# Altium footprint library IPC-SM-782 Section 14.1.3 PBGA 1.0mm.PcbLib: 50 footprints (part 8 of 14)
Each footprint in its own frame and in the unit in brackets; x right, y up, seen from the top. Pads: shape width x height; smd on the part's side, far side on the other; paste and mask are expansions set on the pad; w line width, h text height; cw(c..) or ccw(c..) is an arc to the next point about the centre after c.
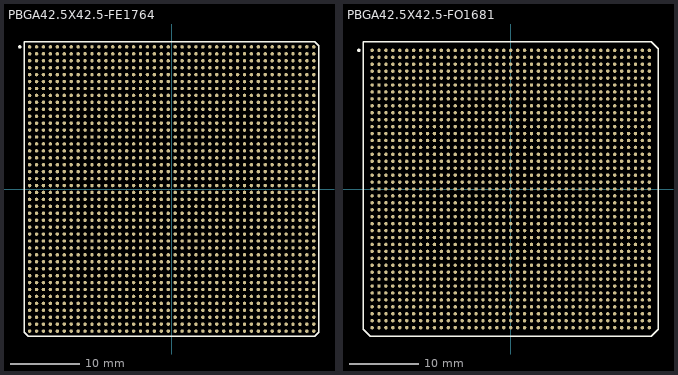
[diagram p7: the footprints below, top view; thin cyan lines are the x and y axes]

## PBGA42.5X42.5-FE1764 [mm] "BGA; 1764 Balls; Body 42.5 x 42.5 mm; Pitch 1 mm"
height 3.5
pads (1764):
  round 0.5 smd: A1(-20.5,20.5) A2(-19.5,20.5) A3(-18.5,20.5) A4(-17.5,20.5) A5(-16.5,20.5) A6(-15.5,20.5) A7(-14.5,20.5) A8(-13.5,20.5) A9(-12.5,20.5) A10(-11.5,20.5) A11(-10.5,20.5) A12(-9.5,20.5) A13(-8.5,20.5) A14(-7.5,20.5) A15(-6.5,20.5) A16(-5.5,20.5) A17(-4.5,20.5) A18(-3.5,20.5) A19(-2.5,20.5) A20(-1.5,20.5) A21(-0.5,20.5) A22(0.5,20.5) A23(1.5,20.5) A24(2.5,20.5) A25(3.5,20.5) A26(4.5,20.5) A27(5.5,20.5) A28(6.5,20.5) A29(7.5,20.5) A30(8.5,20.5) A31(9.5,20.5) A32(10.5,20.5) A33(11.5,20.5) A34(12.5,20.5) A35(13.5,20.5) A36(14.5,20.5) A37(15.5,20.5) A38(16.5,20.5) A39(17.5,20.5) A40(18.5,20.5) A41(19.5,20.5) A42(20.5,20.5) AA1(-20.5,0.5) AA2(-19.5,0.5) AA3(-18.5,0.5) AA4(-17.5,0.5) AA5(-16.5,0.5) AA6(-15.5,0.5) AA7(-14.5,0.5) AA8(-13.5,0.5) AA9(-12.5,0.5) AA10(-11.5,0.5) AA11(-10.5,0.5) AA12(-9.5,0.5) AA13(-8.5,0.5) AA14(-7.5,0.5) AA15(-6.5,0.5) AA16(-5.5,0.5) AA17(-4.5,0.5) AA18(-3.5,0.5) AA19(-2.5,0.5) AA20(-1.5,0.5) AA21(-0.5,0.5) AA22(0.5,0.5) AA23(1.5,0.5) AA24(2.5,0.5) AA25(3.5,0.5) AA26(4.5,0.5) AA27(5.5,0.5) AA28(6.5,0.5) AA29(7.5,0.5) AA30(8.5,0.5) AA31(9.5,0.5) AA32(10.5,0.5) AA33(11.5,0.5) AA34(12.5,0.5) AA35(13.5,0.5) AA36(14.5,0.5) AA37(15.5,0.5) AA38(16.5,0.5) AA39(17.5,0.5) AA40(18.5,0.5) AA41(19.5,0.5) AA42(20.5,0.5) AB1(-20.5,-0.5) AB2(-19.5,-0.5) AB3(-18.5,-0.5) AB4(-17.5,-0.5) AB5(-16.5,-0.5) AB6(-15.5,-0.5) AB7(-14.5,-0.5) AB8(-13.5,-0.5) AB9(-12.5,-0.5) AB10(-11.5,-0.5) AB11(-10.5,-0.5) AB12(-9.5,-0.5) AB13(-8.5,-0.5) AB14(-7.5,-0.5) AB15(-6.5,-0.5) AB16(-5.5,-0.5) AB17(-4.5,-0.5) AB18(-3.5,-0.5) AB19(-2.5,-0.5) AB20(-1.5,-0.5) AB21(-0.5,-0.5) AB22(0.5,-0.5) AB23(1.5,-0.5) AB24(2.5,-0.5) AB25(3.5,-0.5) AB26(4.5,-0.5) AB27(5.5,-0.5) AB28(6.5,-0.5) AB29(7.5,-0.5) AB30(8.5,-0.5) AB31(9.5,-0.5) AB32(10.5,-0.5) AB33(11.5,-0.5) AB34(12.5,-0.5) AB35(13.5,-0.5) AB36(14.5,-0.5) AB37(15.5,-0.5) AB38(16.5,-0.5) AB39(17.5,-0.5) AB40(18.5,-0.5) AB41(19.5,-0.5) AB42(20.5,-0.5) AC1(-20.5,-1.5) AC2(-19.5,-1.5) AC3(-18.5,-1.5) AC4(-17.5,-1.5) AC5(-16.5,-1.5) AC6(-15.5,-1.5) AC7(-14.5,-1.5) AC8(-13.5,-1.5) AC9(-12.5,-1.5) AC10(-11.5,-1.5) AC11(-10.5,-1.5) AC12(-9.5,-1.5) AC13(-8.5,-1.5) AC14(-7.5,-1.5) AC15(-6.5,-1.5) AC16(-5.5,-1.5) AC17(-4.5,-1.5) AC18(-3.5,-1.5) AC19(-2.5,-1.5) AC20(-1.5,-1.5) AC21(-0.5,-1.5) AC22(0.5,-1.5) AC23(1.5,-1.5) AC24(2.5,-1.5) AC25(3.5,-1.5) AC26(4.5,-1.5) AC27(5.5,-1.5) AC28(6.5,-1.5) AC29(7.5,-1.5) AC30(8.5,-1.5) AC31(9.5,-1.5) AC32(10.5,-1.5) AC33(11.5,-1.5) AC34(12.5,-1.5) AC35(13.5,-1.5) AC36(14.5,-1.5) AC37(15.5,-1.5) AC38(16.5,-1.5) AC39(17.5,-1.5) AC40(18.5,-1.5) AC41(19.5,-1.5) AC42(20.5,-1.5) AD1(-20.5,-2.5) AD2(-19.5,-2.5) AD3(-18.5,-2.5) AD4(-17.5,-2.5) AD5(-16.5,-2.5) AD6(-15.5,-2.5) AD7(-14.5,-2.5) AD8(-13.5,-2.5) AD9(-12.5,-2.5) AD10(-11.5,-2.5) AD11(-10.5,-2.5) AD12(-9.5,-2.5) AD13(-8.5,-2.5) AD14(-7.5,-2.5) AD15(-6.5,-2.5) AD16(-5.5,-2.5) AD17(-4.5,-2.5) AD18(-3.5,-2.5) AD19(-2.5,-2.5) AD20(-1.5,-2.5) AD21(-0.5,-2.5) AD22(0.5,-2.5) AD23(1.5,-2.5) AD24(2.5,-2.5) AD25(3.5,-2.5) AD26(4.5,-2.5) AD27(5.5,-2.5) AD28(6.5,-2.5) AD29(7.5,-2.5) AD30(8.5,-2.5) AD31(9.5,-2.5) AD32(10.5,-2.5) AD33(11.5,-2.5) AD34(12.5,-2.5) AD35(13.5,-2.5) AD36(14.5,-2.5) AD37(15.5,-2.5) AD38(16.5,-2.5) AD39(17.5,-2.5) AD40(18.5,-2.5) AD41(19.5,-2.5) AD42(20.5,-2.5) AE1(-20.5,-3.5) AE2(-19.5,-3.5) AE3(-18.5,-3.5) AE4(-17.5,-3.5) AE5(-16.5,-3.5) AE6(-15.5,-3.5) AE7(-14.5,-3.5) AE8(-13.5,-3.5) AE9(-12.5,-3.5) AE10(-11.5,-3.5) AE11(-10.5,-3.5) AE12(-9.5,-3.5) AE13(-8.5,-3.5) AE14(-7.5,-3.5) AE15(-6.5,-3.5) AE16(-5.5,-3.5) AE17(-4.5,-3.5) AE18(-3.5,-3.5) AE19(-2.5,-3.5) AE20(-1.5,-3.5) AE21(-0.5,-3.5) AE22(0.5,-3.5) AE23(1.5,-3.5) AE24(2.5,-3.5) AE25(3.5,-3.5) AE26(4.5,-3.5) AE27(5.5,-3.5) AE28(6.5,-3.5) AE29(7.5,-3.5) AE30(8.5,-3.5) AE31(9.5,-3.5) AE32(10.5,-3.5) AE33(11.5,-3.5) AE34(12.5,-3.5) AE35(13.5,-3.5) AE36(14.5,-3.5) AE37(15.5,-3.5) AE38(16.5,-3.5) AE39(17.5,-3.5) AE40(18.5,-3.5) AE41(19.5,-3.5) AE42(20.5,-3.5) AF1(-20.5,-4.5) AF2(-19.5,-4.5) AF3(-18.5,-4.5) AF4(-17.5,-4.5) AF5(-16.5,-4.5) AF6(-15.5,-4.5) AF7(-14.5,-4.5) AF8(-13.5,-4.5) AF9(-12.5,-4.5) AF10(-11.5,-4.5) AF11(-10.5,-4.5) AF12(-9.5,-4.5) AF13(-8.5,-4.5) AF14(-7.5,-4.5) AF15(-6.5,-4.5) AF16(-5.5,-4.5) AF17(-4.5,-4.5) AF18(-3.5,-4.5) AF19(-2.5,-4.5) AF20(-1.5,-4.5) AF21(-0.5,-4.5) AF22(0.5,-4.5) AF23(1.5,-4.5) AF24(2.5,-4.5) AF25(3.5,-4.5) AF26(4.5,-4.5) AF27(5.5,-4.5) AF28(6.5,-4.5) AF29(7.5,-4.5) AF30(8.5,-4.5) AF31(9.5,-4.5) AF32(10.5,-4.5) AF33(11.5,-4.5) AF34(12.5,-4.5) AF35(13.5,-4.5) AF36(14.5,-4.5) AF37(15.5,-4.5) AF38(16.5,-4.5) AF39(17.5,-4.5) AF40(18.5,-4.5) AF41(19.5,-4.5) AF42(20.5,-4.5) AG1(-20.5,-5.5) AG2(-19.5,-5.5) AG3(-18.5,-5.5) AG4(-17.5,-5.5) AG5(-16.5,-5.5) AG6(-15.5,-5.5) AG7(-14.5,-5.5) AG8(-13.5,-5.5) AG9(-12.5,-5.5) AG10(-11.5,-5.5) AG11(-10.5,-5.5) AG12(-9.5,-5.5) AG13(-8.5,-5.5) AG14(-7.5,-5.5) AG15(-6.5,-5.5) AG16(-5.5,-5.5) AG17(-4.5,-5.5) AG18(-3.5,-5.5) AG19(-2.5,-5.5) AG20(-1.5,-5.5) AG21(-0.5,-5.5) AG22(0.5,-5.5) AG23(1.5,-5.5) AG24(2.5,-5.5) AG25(3.5,-5.5) AG26(4.5,-5.5) AG27(5.5,-5.5) AG28(6.5,-5.5) AG29(7.5,-5.5) AG30(8.5,-5.5) AG31(9.5,-5.5) AG32(10.5,-5.5) AG33(11.5,-5.5) AG34(12.5,-5.5) AG35(13.5,-5.5) AG36(14.5,-5.5) AG37(15.5,-5.5) AG38(16.5,-5.5) AG39(17.5,-5.5) AG40(18.5,-5.5) AG41(19.5,-5.5) AG42(20.5,-5.5) AH1(-20.5,-6.5) AH2(-19.5,-6.5) AH3(-18.5,-6.5) AH4(-17.5,-6.5) AH5(-16.5,-6.5) AH6(-15.5,-6.5) AH7(-14.5,-6.5) AH8(-13.5,-6.5) AH9(-12.5,-6.5) AH10(-11.5,-6.5) AH11(-10.5,-6.5) AH12(-9.5,-6.5) AH13(-8.5,-6.5) AH14(-7.5,-6.5) AH15(-6.5,-6.5) AH16(-5.5,-6.5) AH17(-4.5,-6.5) AH18(-3.5,-6.5) AH19(-2.5,-6.5) AH20(-1.5,-6.5) AH21(-0.5,-6.5) AH22(0.5,-6.5) AH23(1.5,-6.5) AH24(2.5,-6.5) AH25(3.5,-6.5) AH26(4.5,-6.5) AH27(5.5,-6.5) AH28(6.5,-6.5) AH29(7.5,-6.5) AH30(8.5,-6.5) AH31(9.5,-6.5) AH32(10.5,-6.5) AH33(11.5,-6.5) AH34(12.5,-6.5) AH35(13.5,-6.5) AH36(14.5,-6.5) AH37(15.5,-6.5) AH38(16.5,-6.5) AH39(17.5,-6.5) AH40(18.5,-6.5) AH41(19.5,-6.5) AH42(20.5,-6.5) AJ1(-20.5,-7.5) AJ2(-19.5,-7.5) AJ3(-18.5,-7.5) AJ4(-17.5,-7.5) AJ5(-16.5,-7.5) AJ6(-15.5,-7.5) AJ7(-14.5,-7.5) AJ8(-13.5,-7.5) AJ9(-12.5,-7.5) AJ10(-11.5,-7.5) AJ11(-10.5,-7.5) AJ12(-9.5,-7.5) AJ13(-8.5,-7.5) AJ14(-7.5,-7.5) AJ15(-6.5,-7.5) AJ16(-5.5,-7.5) AJ17(-4.5,-7.5) AJ18(-3.5,-7.5) AJ19(-2.5,-7.5) AJ20(-1.5,-7.5) AJ21(-0.5,-7.5) AJ22(0.5,-7.5) AJ23(1.5,-7.5) AJ24(2.5,-7.5) AJ25(3.5,-7.5) AJ26(4.5,-7.5) AJ27(5.5,-7.5) AJ28(6.5,-7.5) AJ29(7.5,-7.5) AJ30(8.5,-7.5) AJ31(9.5,-7.5) AJ32(10.5,-7.5) AJ33(11.5,-7.5) AJ34(12.5,-7.5) AJ35(13.5,-7.5) AJ36(14.5,-7.5) AJ37(15.5,-7.5) AJ38(16.5,-7.5) AJ39(17.5,-7.5) AJ40(18.5,-7.5) AJ41(19.5,-7.5) AJ42(20.5,-7.5) AK1(-20.5,-8.5) AK2(-19.5,-8.5) AK3(-18.5,-8.5) AK4(-17.5,-8.5) AK5(-16.5,-8.5) AK6(-15.5,-8.5) AK7(-14.5,-8.5) AK8(-13.5,-8.5) AK9(-12.5,-8.5) AK10(-11.5,-8.5) AK11(-10.5,-8.5) AK12(-9.5,-8.5) AK13(-8.5,-8.5) AK14(-7.5,-8.5) AK15(-6.5,-8.5) AK16(-5.5,-8.5) AK17(-4.5,-8.5) AK18(-3.5,-8.5) AK19(-2.5,-8.5) AK20(-1.5,-8.5) AK21(-0.5,-8.5) AK22(0.5,-8.5) AK23(1.5,-8.5) AK24(2.5,-8.5) AK25(3.5,-8.5) AK26(4.5,-8.5) AK27(5.5,-8.5) AK28(6.5,-8.5) AK29(7.5,-8.5) AK30(8.5,-8.5) AK31(9.5,-8.5) AK32(10.5,-8.5) AK33(11.5,-8.5) AK34(12.5,-8.5) AK35(13.5,-8.5) AK36(14.5,-8.5) AK37(15.5,-8.5) AK38(16.5,-8.5) AK39(17.5,-8.5) AK40(18.5,-8.5) AK41(19.5,-8.5) AK42(20.5,-8.5) AL1(-20.5,-9.5) AL2(-19.5,-9.5) AL3(-18.5,-9.5) AL4(-17.5,-9.5) AL5(-16.5,-9.5) AL6(-15.5,-9.5) AL7(-14.5,-9.5) AL8(-13.5,-9.5) AL9(-12.5,-9.5) AL10(-11.5,-9.5) AL11(-10.5,-9.5) AL12(-9.5,-9.5) AL13(-8.5,-9.5) AL14(-7.5,-9.5) AL15(-6.5,-9.5) AL16(-5.5,-9.5) AL17(-4.5,-9.5) AL18(-3.5,-9.5) AL19(-2.5,-9.5) AL20(-1.5,-9.5) AL21(-0.5,-9.5) AL22(0.5,-9.5) AL23(1.5,-9.5) AL24(2.5,-9.5) AL25(3.5,-9.5) AL26(4.5,-9.5) AL27(5.5,-9.5) AL28(6.5,-9.5) AL29(7.5,-9.5) AL30(8.5,-9.5) AL31(9.5,-9.5) AL32(10.5,-9.5) AL33(11.5,-9.5) AL34(12.5,-9.5) AL35(13.5,-9.5) AL36(14.5,-9.5) AL37(15.5,-9.5) AL38(16.5,-9.5) AL39(17.5,-9.5) AL40(18.5,-9.5) AL41(19.5,-9.5) AL42(20.5,-9.5) AM1(-20.5,-10.5) AM2(-19.5,-10.5) AM3(-18.5,-10.5) AM4(-17.5,-10.5) AM5(-16.5,-10.5) AM6(-15.5,-10.5) AM7(-14.5,-10.5) AM8(-13.5,-10.5) AM9(-12.5,-10.5) AM10(-11.5,-10.5) AM11(-10.5,-10.5) AM12(-9.5,-10.5) AM13(-8.5,-10.5) AM14(-7.5,-10.5) AM15(-6.5,-10.5) AM16(-5.5,-10.5) AM17(-4.5,-10.5) AM18(-3.5,-10.5) AM19(-2.5,-10.5) AM20(-1.5,-10.5) AM21(-0.5,-10.5) AM22(0.5,-10.5) AM23(1.5,-10.5) AM24(2.5,-10.5) AM25(3.5,-10.5) AM26(4.5,-10.5) AM27(5.5,-10.5) AM28(6.5,-10.5) AM29(7.5,-10.5) AM30(8.5,-10.5) AM31(9.5,-10.5) AM32(10.5,-10.5) AM33(11.5,-10.5) AM34(12.5,-10.5) AM35(13.5,-10.5) AM36(14.5,-10.5) AM37(15.5,-10.5) AM38(16.5,-10.5) AM39(17.5,-10.5) AM40(18.5,-10.5) AM41(19.5,-10.5) AM42(20.5,-10.5) AN1(-20.5,-11.5) AN2(-19.5,-11.5) AN3(-18.5,-11.5) AN4(-17.5,-11.5) AN5(-16.5,-11.5) AN6(-15.5,-11.5) AN7(-14.5,-11.5) AN8(-13.5,-11.5) AN9(-12.5,-11.5) AN10(-11.5,-11.5) AN11(-10.5,-11.5) AN12(-9.5,-11.5) AN13(-8.5,-11.5) AN14(-7.5,-11.5) AN15(-6.5,-11.5) AN16(-5.5,-11.5) AN17(-4.5,-11.5) AN18(-3.5,-11.5) AN19(-2.5,-11.5) AN20(-1.5,-11.5) AN21(-0.5,-11.5) AN22(0.5,-11.5) AN23(1.5,-11.5) AN24(2.5,-11.5) AN25(3.5,-11.5) AN26(4.5,-11.5) AN27(5.5,-11.5) AN28(6.5,-11.5) AN29(7.5,-11.5) AN30(8.5,-11.5) AN31(9.5,-11.5) AN32(10.5,-11.5) AN33(11.5,-11.5) AN34(12.5,-11.5) AN35(13.5,-11.5) AN36(14.5,-11.5) AN37(15.5,-11.5) AN38(16.5,-11.5) AN39(17.5,-11.5) AN40(18.5,-11.5) AN41(19.5,-11.5) AN42(20.5,-11.5) AP1(-20.5,-12.5) AP2(-19.5,-12.5) AP3(-18.5,-12.5) AP4(-17.5,-12.5) AP5(-16.5,-12.5) AP6(-15.5,-12.5) AP7(-14.5,-12.5) AP8(-13.5,-12.5) AP9(-12.5,-12.5) AP10(-11.5,-12.5) AP11(-10.5,-12.5) AP12(-9.5,-12.5) AP13(-8.5,-12.5) AP14(-7.5,-12.5) AP15(-6.5,-12.5) AP16(-5.5,-12.5) AP17(-4.5,-12.5) AP18(-3.5,-12.5) AP19(-2.5,-12.5) AP20(-1.5,-12.5) AP21(-0.5,-12.5) AP22(0.5,-12.5) AP23(1.5,-12.5) AP24(2.5,-12.5) AP25(3.5,-12.5) AP26(4.5,-12.5) AP27(5.5,-12.5) AP28(6.5,-12.5) AP29(7.5,-12.5) AP30(8.5,-12.5) AP31(9.5,-12.5) AP32(10.5,-12.5) AP33(11.5,-12.5) AP34(12.5,-12.5) AP35(13.5,-12.5) AP36(14.5,-12.5) AP37(15.5,-12.5) AP38(16.5,-12.5) AP39(17.5,-12.5) AP40(18.5,-12.5) AP41(19.5,-12.5) AP42(20.5,-12.5) AR1(-20.5,-13.5) AR2(-19.5,-13.5) AR3(-18.5,-13.5) AR4(-17.5,-13.5) AR5(-16.5,-13.5) AR6(-15.5,-13.5) AR7(-14.5,-13.5) AR8(-13.5,-13.5) AR9(-12.5,-13.5) AR10(-11.5,-13.5) AR11(-10.5,-13.5) AR12(-9.5,-13.5) AR13(-8.5,-13.5) AR14(-7.5,-13.5) AR15(-6.5,-13.5) AR16(-5.5,-13.5) AR17(-4.5,-13.5) AR18(-3.5,-13.5) AR19(-2.5,-13.5) AR20(-1.5,-13.5) AR21(-0.5,-13.5) AR22(0.5,-13.5) AR23(1.5,-13.5) AR24(2.5,-13.5) AR25(3.5,-13.5) AR26(4.5,-13.5) AR27(5.5,-13.5) AR28(6.5,-13.5) AR29(7.5,-13.5) AR30(8.5,-13.5) AR31(9.5,-13.5) AR32(10.5,-13.5) AR33(11.5,-13.5) AR34(12.5,-13.5) AR35(13.5,-13.5) AR36(14.5,-13.5) AR37(15.5,-13.5) AR38(16.5,-13.5) AR39(17.5,-13.5) AR40(18.5,-13.5) AR41(19.5,-13.5) AR42(20.5,-13.5) AT1(-20.5,-14.5) AT2(-19.5,-14.5) AT3(-18.5,-14.5) AT4(-17.5,-14.5) AT5(-16.5,-14.5) AT6(-15.5,-14.5) AT7(-14.5,-14.5) AT8(-13.5,-14.5) AT9(-12.5,-14.5) AT10(-11.5,-14.5) AT11(-10.5,-14.5) AT12(-9.5,-14.5) AT13(-8.5,-14.5) AT14(-7.5,-14.5) AT15(-6.5,-14.5) AT16(-5.5,-14.5) AT17(-4.5,-14.5) AT18(-3.5,-14.5) AT19(-2.5,-14.5) AT20(-1.5,-14.5) AT21(-0.5,-14.5) AT22(0.5,-14.5) AT23(1.5,-14.5) AT24(2.5,-14.5) AT25(3.5,-14.5) AT26(4.5,-14.5) AT27(5.5,-14.5) AT28(6.5,-14.5) AT29(7.5,-14.5) AT30(8.5,-14.5) AT31(9.5,-14.5) AT32(10.5,-14.5) AT33(11.5,-14.5) AT34(12.5,-14.5) AT35(13.5,-14.5) AT36(14.5,-14.5) AT37(15.5,-14.5) AT38(16.5,-14.5) AT39(17.5,-14.5) AT40(18.5,-14.5) AT41(19.5,-14.5) AT42(20.5,-14.5) AU1(-20.5,-15.5) AU2(-19.5,-15.5) AU3(-18.5,-15.5) AU4(-17.5,-15.5) AU5(-16.5,-15.5) AU6(-15.5,-15.5) AU7(-14.5,-15.5) AU8(-13.5,-15.5) AU9(-12.5,-15.5) AU10(-11.5,-15.5) AU11(-10.5,-15.5) AU12(-9.5,-15.5) AU13(-8.5,-15.5) AU14(-7.5,-15.5) AU15(-6.5,-15.5) AU16(-5.5,-15.5) AU17(-4.5,-15.5) AU18(-3.5,-15.5) AU19(-2.5,-15.5) AU20(-1.5,-15.5) AU21(-0.5,-15.5) AU22(0.5,-15.5) AU23(1.5,-15.5) AU24(2.5,-15.5) AU25(3.5,-15.5) AU26(4.5,-15.5) AU27(5.5,-15.5) AU28(6.5,-15.5) AU29(7.5,-15.5) AU30(8.5,-15.5) AU31(9.5,-15.5) AU32(10.5,-15.5) AU33(11.5,-15.5) AU34(12.5,-15.5) AU35(13.5,-15.5) AU36(14.5,-15.5) AU37(15.5,-15.5) AU38(16.5,-15.5) AU39(17.5,-15.5) AU40(18.5,-15.5) AU41(19.5,-15.5) AU42(20.5,-15.5) AV1(-20.5,-16.5) AV2(-19.5,-16.5) AV3(-18.5,-16.5) AV4(-17.5,-16.5) AV5(-16.5,-16.5) AV6(-15.5,-16.5) AV7(-14.5,-16.5) AV8(-13.5,-16.5) AV9(-12.5,-16.5) AV10(-11.5,-16.5) AV11(-10.5,-16.5) AV12(-9.5,-16.5) AV13(-8.5,-16.5) AV14(-7.5,-16.5) AV15(-6.5,-16.5) AV16(-5.5,-16.5) AV17(-4.5,-16.5) AV18(-3.5,-16.5) AV19(-2.5,-16.5) AV20(-1.5,-16.5) AV21(-0.5,-16.5) AV22(0.5,-16.5) AV23(1.5,-16.5) AV24(2.5,-16.5) AV25(3.5,-16.5) AV26(4.5,-16.5) AV27(5.5,-16.5) AV28(6.5,-16.5) AV29(7.5,-16.5) AV30(8.5,-16.5) AV31(9.5,-16.5) AV32(10.5,-16.5) AV33(11.5,-16.5) AV34(12.5,-16.5) AV35(13.5,-16.5) AV36(14.5,-16.5) AV37(15.5,-16.5) AV38(16.5,-16.5) AV39(17.5,-16.5) AV40(18.5,-16.5) AV41(19.5,-16.5) AV42(20.5,-16.5) AW1(-20.5,-17.5) AW2(-19.5,-17.5) AW3(-18.5,-17.5) AW4(-17.5,-17.5) AW5(-16.5,-17.5) AW6(-15.5,-17.5) AW7(-14.5,-17.5) AW8(-13.5,-17.5) AW9(-12.5,-17.5) AW10(-11.5,-17.5) AW11(-10.5,-17.5) AW12(-9.5,-17.5) AW13(-8.5,-17.5) AW14(-7.5,-17.5) AW15(-6.5,-17.5) AW16(-5.5,-17.5) AW17(-4.5,-17.5) AW18(-3.5,-17.5) AW19(-2.5,-17.5) AW20(-1.5,-17.5) AW21(-0.5,-17.5) AW22(0.5,-17.5) AW23(1.5,-17.5) AW24(2.5,-17.5) AW25(3.5,-17.5) AW26(4.5,-17.5) AW27(5.5,-17.5) AW28(6.5,-17.5) AW29(7.5,-17.5) AW30(8.5,-17.5) AW31(9.5,-17.5) AW32(10.5,-17.5) AW33(11.5,-17.5) AW34(12.5,-17.5) AW35(13.5,-17.5) AW36(14.5,-17.5) AW37(15.5,-17.5) AW38(16.5,-17.5) AW39(17.5,-17.5) AW40(18.5,-17.5) AW41(19.5,-17.5) AW42(20.5,-17.5) AY1(-20.5,-18.5) AY2(-19.5,-18.5) AY3(-18.5,-18.5) AY4(-17.5,-18.5) AY5(-16.5,-18.5) AY6(-15.5,-18.5) AY7(-14.5,-18.5) AY8(-13.5,-18.5) AY9(-12.5,-18.5) AY10(-11.5,-18.5) AY11(-10.5,-18.5) AY12(-9.5,-18.5) AY13(-8.5,-18.5) AY14(-7.5,-18.5) AY15(-6.5,-18.5) AY16(-5.5,-18.5) AY17(-4.5,-18.5) AY18(-3.5,-18.5) AY19(-2.5,-18.5) AY20(-1.5,-18.5) AY21(-0.5,-18.5) AY22(0.5,-18.5) AY23(1.5,-18.5) AY24(2.5,-18.5) AY25(3.5,-18.5) AY26(4.5,-18.5) AY27(5.5,-18.5) AY28(6.5,-18.5) AY29(7.5,-18.5) AY30(8.5,-18.5) AY31(9.5,-18.5) AY32(10.5,-18.5) AY33(11.5,-18.5) AY34(12.5,-18.5) AY35(13.5,-18.5) AY36(14.5,-18.5) AY37(15.5,-18.5) AY38(16.5,-18.5) AY39(17.5,-18.5) AY40(18.5,-18.5) AY41(19.5,-18.5) AY42(20.5,-18.5) B1(-20.5,19.5) B2(-19.5,19.5) B3(-18.5,19.5) B4(-17.5,19.5) B5(-16.5,19.5) B6(-15.5,19.5) B7(-14.5,19.5) B8(-13.5,19.5) B9(-12.5,19.5) B10(-11.5,19.5) B11(-10.5,19.5) B12(-9.5,19.5) B13(-8.5,19.5) B14(-7.5,19.5) B15(-6.5,19.5) B16(-5.5,19.5) B17(-4.5,19.5) B18(-3.5,19.5) B19(-2.5,19.5) B20(-1.5,19.5) B21(-0.5,19.5) B22(0.5,19.5) B23(1.5,19.5) B24(2.5,19.5) B25(3.5,19.5) B26(4.5,19.5) B27(5.5,19.5) B28(6.5,19.5) B29(7.5,19.5) B30(8.5,19.5) B31(9.5,19.5) B32(10.5,19.5) B33(11.5,19.5) B34(12.5,19.5) B35(13.5,19.5) B36(14.5,19.5) B37(15.5,19.5) B38(16.5,19.5) B39(17.5,19.5) B40(18.5,19.5) B41(19.5,19.5) B42(20.5,19.5) BA1(-20.5,-19.5) BA2(-19.5,-19.5) BA3(-18.5,-19.5) BA4(-17.5,-19.5) BA5(-16.5,-19.5) BA6(-15.5,-19.5) BA7(-14.5,-19.5) BA8(-13.5,-19.5) BA9(-12.5,-19.5) BA10(-11.5,-19.5) BA11(-10.5,-19.5) BA12(-9.5,-19.5) BA13(-8.5,-19.5) BA14(-7.5,-19.5) BA15(-6.5,-19.5) BA16(-5.5,-19.5) BA17(-4.5,-19.5) BA18(-3.5,-19.5) BA19(-2.5,-19.5) BA20(-1.5,-19.5) BA21(-0.5,-19.5) BA22(0.5,-19.5) BA23(1.5,-19.5) BA24(2.5,-19.5) BA25(3.5,-19.5) BA26(4.5,-19.5) BA27(5.5,-19.5) BA28(6.5,-19.5) BA29(7.5,-19.5) BA30(8.5,-19.5) BA31(9.5,-19.5) BA32(10.5,-19.5) BA33(11.5,-19.5) BA34(12.5,-19.5) BA35(13.5,-19.5) BA36(14.5,-19.5) BA37(15.5,-19.5) BA38(16.5,-19.5) BA39(17.5,-19.5) BA40(18.5,-19.5) BA41(19.5,-19.5) BA42(20.5,-19.5) BB1(-20.5,-20.5) BB2(-19.5,-20.5) BB3(-18.5,-20.5) BB4(-17.5,-20.5) BB5(-16.5,-20.5) BB6(-15.5,-20.5) BB7(-14.5,-20.5) BB8(-13.5,-20.5) BB9(-12.5,-20.5) BB10(-11.5,-20.5) BB11(-10.5,-20.5) BB12(-9.5,-20.5) BB13(-8.5,-20.5) BB14(-7.5,-20.5) BB15(-6.5,-20.5) BB16(-5.5,-20.5) BB17(-4.5,-20.5) BB18(-3.5,-20.5) BB19(-2.5,-20.5) BB20(-1.5,-20.5) BB21(-0.5,-20.5) BB22(0.5,-20.5) BB23(1.5,-20.5) BB24(2.5,-20.5) BB25(3.5,-20.5) BB26(4.5,-20.5) BB27(5.5,-20.5) BB28(6.5,-20.5) BB29(7.5,-20.5) BB30(8.5,-20.5) BB31(9.5,-20.5) BB32(10.5,-20.5) BB33(11.5,-20.5) BB34(12.5,-20.5) BB35(13.5,-20.5) BB36(14.5,-20.5) BB37(15.5,-20.5) BB38(16.5,-20.5) BB39(17.5,-20.5) BB40(18.5,-20.5) BB41(19.5,-20.5) BB42(20.5,-20.5) C1(-20.5,18.5) C2(-19.5,18.5) C3(-18.5,18.5) C4(-17.5,18.5) C5(-16.5,18.5) C6(-15.5,18.5) C7(-14.5,18.5) C8(-13.5,18.5) C9(-12.5,18.5) C10(-11.5,18.5) C11(-10.5,18.5) C12(-9.5,18.5) C13(-8.5,18.5) C14(-7.5,18.5) C15(-6.5,18.5) C16(-5.5,18.5) C17(-4.5,18.5) C18(-3.5,18.5) C19(-2.5,18.5) C20(-1.5,18.5) C21(-0.5,18.5) C22(0.5,18.5) C23(1.5,18.5) C24(2.5,18.5) C25(3.5,18.5) C26(4.5,18.5) C27(5.5,18.5) C28(6.5,18.5) C29(7.5,18.5) C30(8.5,18.5) C31(9.5,18.5) C32(10.5,18.5) C33(11.5,18.5) C34(12.5,18.5) C35(13.5,18.5) C36(14.5,18.5) C37(15.5,18.5) C38(16.5,18.5) C39(17.5,18.5) C40(18.5,18.5) C41(19.5,18.5) C42(20.5,18.5) D1(-20.5,17.5) D2(-19.5,17.5) D3(-18.5,17.5) D4(-17.5,17.5) D5(-16.5,17.5) D6(-15.5,17.5) D7(-14.5,17.5) D8(-13.5,17.5) D9(-12.5,17.5) D10(-11.5,17.5) D11(-10.5,17.5) D12(-9.5,17.5) D13(-8.5,17.5) D14(-7.5,17.5) D15(-6.5,17.5) D16(-5.5,17.5) D17(-4.5,17.5) D18(-3.5,17.5) D19(-2.5,17.5) D20(-1.5,17.5) D21(-0.5,17.5) D22(0.5,17.5) D23(1.5,17.5) D24(2.5,17.5) D25(3.5,17.5) D26(4.5,17.5) D27(5.5,17.5) D28(6.5,17.5) D29(7.5,17.5) D30(8.5,17.5) D31(9.5,17.5) D32(10.5,17.5) D33(11.5,17.5) D34(12.5,17.5) D35(13.5,17.5) D36(14.5,17.5) D37(15.5,17.5) D38(16.5,17.5) D39(17.5,17.5) D40(18.5,17.5) D41(19.5,17.5) D42(20.5,17.5) E1(-20.5,16.5) E2(-19.5,16.5) E3(-18.5,16.5) E4(-17.5,16.5) E5(-16.5,16.5) E6(-15.5,16.5) E7(-14.5,16.5) E8(-13.5,16.5) E9(-12.5,16.5) E10(-11.5,16.5) E11(-10.5,16.5) E12(-9.5,16.5) E13(-8.5,16.5) E14(-7.5,16.5) E15(-6.5,16.5) E16(-5.5,16.5) E17(-4.5,16.5) E18(-3.5,16.5) E19(-2.5,16.5) E20(-1.5,16.5) E21(-0.5,16.5) E22(0.5,16.5) E23(1.5,16.5) E24(2.5,16.5) E25(3.5,16.5) E26(4.5,16.5) E27(5.5,16.5) E28(6.5,16.5) E29(7.5,16.5) E30(8.5,16.5) E31(9.5,16.5) E32(10.5,16.5) E33(11.5,16.5) E34(12.5,16.5) E35(13.5,16.5) E36(14.5,16.5) E37(15.5,16.5) E38(16.5,16.5) E39(17.5,16.5) E40(18.5,16.5) E41(19.5,16.5) E42(20.5,16.5) F1(-20.5,15.5) F2(-19.5,15.5) F3(-18.5,15.5) F4(-17.5,15.5) F5(-16.5,15.5) F6(-15.5,15.5) F7(-14.5,15.5) F8(-13.5,15.5) F9(-12.5,15.5) F10(-11.5,15.5) F11(-10.5,15.5) F12(-9.5,15.5) F13(-8.5,15.5) F14(-7.5,15.5) F15(-6.5,15.5) F16(-5.5,15.5) F17(-4.5,15.5) F18(-3.5,15.5) F19(-2.5,15.5) F20(-1.5,15.5) F21(-0.5,15.5) F22(0.5,15.5) F23(1.5,15.5) F24(2.5,15.5) F25(3.5,15.5) F26(4.5,15.5) F27(5.5,15.5) F28(6.5,15.5) F29(7.5,15.5) F30(8.5,15.5) F31(9.5,15.5) F32(10.5,15.5) F33(11.5,15.5) F34(12.5,15.5) F35(13.5,15.5) F36(14.5,15.5) F37(15.5,15.5) F38(16.5,15.5) F39(17.5,15.5) F40(18.5,15.5) F41(19.5,15.5) F42(20.5,15.5) G1(-20.5,14.5) G2(-19.5,14.5) G3(-18.5,14.5) G4(-17.5,14.5) G5(-16.5,14.5) G6(-15.5,14.5) G7(-14.5,14.5) G8(-13.5,14.5) G9(-12.5,14.5) G10(-11.5,14.5) G11(-10.5,14.5) G12(-9.5,14.5) G13(-8.5,14.5) G14(-7.5,14.5) G15(-6.5,14.5) G16(-5.5,14.5) G17(-4.5,14.5) G18(-3.5,14.5) G19(-2.5,14.5) G20(-1.5,14.5) G21(-0.5,14.5) G22(0.5,14.5) G23(1.5,14.5) G24(2.5,14.5) G25(3.5,14.5) G26(4.5,14.5) G27(5.5,14.5) G28(6.5,14.5) G29(7.5,14.5) G30(8.5,14.5) G31(9.5,14.5) G32(10.5,14.5) G33(11.5,14.5) G34(12.5,14.5) G35(13.5,14.5) G36(14.5,14.5) G37(15.5,14.5) G38(16.5,14.5) G39(17.5,14.5) G40(18.5,14.5) G41(19.5,14.5) G42(20.5,14.5) H1(-20.5,13.5) H2(-19.5,13.5) H3(-18.5,13.5) H4(-17.5,13.5) H5(-16.5,13.5) H6(-15.5,13.5) H7(-14.5,13.5) H8(-13.5,13.5) H9(-12.5,13.5) H10(-11.5,13.5) H11(-10.5,13.5) H12(-9.5,13.5) H13(-8.5,13.5) H14(-7.5,13.5) H15(-6.5,13.5) H16(-5.5,13.5) H17(-4.5,13.5) H18(-3.5,13.5) H19(-2.5,13.5) H20(-1.5,13.5) H21(-0.5,13.5) H22(0.5,13.5) H23(1.5,13.5) H24(2.5,13.5) H25(3.5,13.5) H26(4.5,13.5) H27(5.5,13.5) H28(6.5,13.5) H29(7.5,13.5) H30(8.5,13.5) H31(9.5,13.5) H32(10.5,13.5) H33(11.5,13.5) H34(12.5,13.5) H35(13.5,13.5) H36(14.5,13.5) H37(15.5,13.5) H38(16.5,13.5) H39(17.5,13.5) H40(18.5,13.5) H41(19.5,13.5) H42(20.5,13.5) J1(-20.5,12.5) J2(-19.5,12.5) J3(-18.5,12.5) J4(-17.5,12.5) J5(-16.5,12.5) J6(-15.5,12.5) J7(-14.5,12.5) J8(-13.5,12.5) J9(-12.5,12.5) J10(-11.5,12.5) J11(-10.5,12.5) J12(-9.5,12.5) J13(-8.5,12.5) J14(-7.5,12.5) J15(-6.5,12.5) J16(-5.5,12.5) J17(-4.5,12.5) J18(-3.5,12.5) J19(-2.5,12.5) J20(-1.5,12.5) J21(-0.5,12.5) J22(0.5,12.5) J23(1.5,12.5) J24(2.5,12.5) J25(3.5,12.5) J26(4.5,12.5) J27(5.5,12.5) J28(6.5,12.5) J29(7.5,12.5) J30(8.5,12.5) J31(9.5,12.5) J32(10.5,12.5) J33(11.5,12.5) J34(12.5,12.5) J35(13.5,12.5) J36(14.5,12.5) J37(15.5,12.5) J38(16.5,12.5) J39(17.5,12.5) J40(18.5,12.5) J41(19.5,12.5) J42(20.5,12.5) K1(-20.5,11.5) K2(-19.5,11.5) K3(-18.5,11.5) K4(-17.5,11.5) K5(-16.5,11.5) K6(-15.5,11.5) K7(-14.5,11.5) K8(-13.5,11.5) K9(-12.5,11.5) K10(-11.5,11.5) K11(-10.5,11.5) K12(-9.5,11.5) K13(-8.5,11.5) K14(-7.5,11.5) K15(-6.5,11.5) K16(-5.5,11.5) K17(-4.5,11.5) K18(-3.5,11.5) K19(-2.5,11.5) K20(-1.5,11.5) K21(-0.5,11.5) K22(0.5,11.5) K23(1.5,11.5) K24(2.5,11.5) K25(3.5,11.5) K26(4.5,11.5) K27(5.5,11.5) K28(6.5,11.5) K29(7.5,11.5) K30(8.5,11.5) K31(9.5,11.5) K32(10.5,11.5) K33(11.5,11.5) K34(12.5,11.5) K35(13.5,11.5) K36(14.5,11.5) K37(15.5,11.5) K38(16.5,11.5) K39(17.5,11.5) K40(18.5,11.5) K41(19.5,11.5) K42(20.5,11.5) L1(-20.5,10.5) L2(-19.5,10.5) L3(-18.5,10.5) L4(-17.5,10.5) L5(-16.5,10.5) L6(-15.5,10.5) L7(-14.5,10.5) L8(-13.5,10.5) L9(-12.5,10.5) L10(-11.5,10.5) L11(-10.5,10.5) L12(-9.5,10.5) L13(-8.5,10.5) L14(-7.5,10.5) L15(-6.5,10.5) L16(-5.5,10.5) L17(-4.5,10.5) L18(-3.5,10.5) L19(-2.5,10.5) L20(-1.5,10.5) L21(-0.5,10.5) L22(0.5,10.5) L23(1.5,10.5) L24(2.5,10.5) L25(3.5,10.5) L26(4.5,10.5) L27(5.5,10.5) L28(6.5,10.5) L29(7.5,10.5) L30(8.5,10.5) L31(9.5,10.5) L32(10.5,10.5) L33(11.5,10.5) L34(12.5,10.5) L35(13.5,10.5) L36(14.5,10.5) L37(15.5,10.5) L38(16.5,10.5) L39(17.5,10.5) L40(18.5,10.5) L41(19.5,10.5) L42(20.5,10.5) M1(-20.5,9.5) M2(-19.5,9.5) M3(-18.5,9.5) M4(-17.5,9.5) M5(-16.5,9.5) M6(-15.5,9.5) M7(-14.5,9.5) M8(-13.5,9.5) M9(-12.5,9.5) M10(-11.5,9.5) M11(-10.5,9.5) M12(-9.5,9.5) M13(-8.5,9.5) M14(-7.5,9.5) M15(-6.5,9.5) M16(-5.5,9.5) M17(-4.5,9.5) M18(-3.5,9.5) M19(-2.5,9.5) M20(-1.5,9.5) M21(-0.5,9.5) M22(0.5,9.5) M23(1.5,9.5) M24(2.5,9.5) M25(3.5,9.5) M26(4.5,9.5) M27(5.5,9.5) M28(6.5,9.5) M29(7.5,9.5) M30(8.5,9.5) M31(9.5,9.5) M32(10.5,9.5) M33(11.5,9.5) M34(12.5,9.5) M35(13.5,9.5) M36(14.5,9.5) M37(15.5,9.5) M38(16.5,9.5) M39(17.5,9.5) M40(18.5,9.5) M41(19.5,9.5) M42(20.5,9.5) N1(-20.5,8.5) N2(-19.5,8.5) N3(-18.5,8.5) N4(-17.5,8.5) N5(-16.5,8.5) N6(-15.5,8.5) N7(-14.5,8.5) N8(-13.5,8.5) N9(-12.5,8.5) N10(-11.5,8.5) N11(-10.5,8.5) N12(-9.5,8.5) N13(-8.5,8.5) N14(-7.5,8.5) N15(-6.5,8.5) N16(-5.5,8.5) N17(-4.5,8.5) N18(-3.5,8.5) N19(-2.5,8.5) N20(-1.5,8.5) N21(-0.5,8.5) N22(0.5,8.5) N23(1.5,8.5) N24(2.5,8.5) N25(3.5,8.5) N26(4.5,8.5) N27(5.5,8.5) N28(6.5,8.5) N29(7.5,8.5) N30(8.5,8.5) N31(9.5,8.5) N32(10.5,8.5) N33(11.5,8.5) N34(12.5,8.5) N35(13.5,8.5) N36(14.5,8.5) N37(15.5,8.5) N38(16.5,8.5) N39(17.5,8.5) N40(18.5,8.5) N41(19.5,8.5) N42(20.5,8.5) P1(-20.5,7.5) P2(-19.5,7.5) P3(-18.5,7.5) P4(-17.5,7.5) P5(-16.5,7.5) P6(-15.5,7.5) P7(-14.5,7.5) P8(-13.5,7.5) P9(-12.5,7.5) P10(-11.5,7.5) P11(-10.5,7.5) P12(-9.5,7.5) P13(-8.5,7.5) P14(-7.5,7.5) P15(-6.5,7.5) P16(-5.5,7.5) P17(-4.5,7.5) P18(-3.5,7.5) P19(-2.5,7.5) P20(-1.5,7.5) P21(-0.5,7.5) P22(0.5,7.5) P23(1.5,7.5) P24(2.5,7.5) P25(3.5,7.5) P26(4.5,7.5) P27(5.5,7.5) P28(6.5,7.5) P29(7.5,7.5) P30(8.5,7.5) P31(9.5,7.5) P32(10.5,7.5) P33(11.5,7.5) P34(12.5,7.5) P35(13.5,7.5) P36(14.5,7.5) P37(15.5,7.5) P38(16.5,7.5) P39(17.5,7.5) P40(18.5,7.5) P41(19.5,7.5) P42(20.5,7.5) R1(-20.5,6.5) R2(-19.5,6.5) R3(-18.5,6.5) R4(-17.5,6.5) R5(-16.5,6.5) R6(-15.5,6.5) R7(-14.5,6.5) R8(-13.5,6.5) R9(-12.5,6.5) R10(-11.5,6.5) R11(-10.5,6.5) R12(-9.5,6.5) R13(-8.5,6.5) R14(-7.5,6.5) R15(-6.5,6.5) R16(-5.5,6.5) R17(-4.5,6.5) R18(-3.5,6.5) R19(-2.5,6.5) R20(-1.5,6.5) R21(-0.5,6.5) R22(0.5,6.5) R23(1.5,6.5) R24(2.5,6.5) R25(3.5,6.5) R26(4.5,6.5) R27(5.5,6.5) R28(6.5,6.5) R29(7.5,6.5) R30(8.5,6.5) R31(9.5,6.5) R32(10.5,6.5) R33(11.5,6.5) R34(12.5,6.5) R35(13.5,6.5) R36(14.5,6.5) R37(15.5,6.5) R38(16.5,6.5) R39(17.5,6.5) R40(18.5,6.5) R41(19.5,6.5) R42(20.5,6.5) T1(-20.5,5.5) T2(-19.5,5.5) T3(-18.5,5.5) T4(-17.5,5.5) T5(-16.5,5.5) T6(-15.5,5.5) T7(-14.5,5.5) T8(-13.5,5.5) T9(-12.5,5.5) T10(-11.5,5.5) T11(-10.5,5.5) T12(-9.5,5.5) T13(-8.5,5.5) T14(-7.5,5.5) T15(-6.5,5.5) T16(-5.5,5.5) T17(-4.5,5.5) T18(-3.5,5.5) T19(-2.5,5.5) T20(-1.5,5.5) T21(-0.5,5.5) T22(0.5,5.5) T23(1.5,5.5) T24(2.5,5.5) T25(3.5,5.5) T26(4.5,5.5) T27(5.5,5.5) T28(6.5,5.5) T29(7.5,5.5) T30(8.5,5.5) T31(9.5,5.5) T32(10.5,5.5) T33(11.5,5.5) T34(12.5,5.5) T35(13.5,5.5) T36(14.5,5.5) T37(15.5,5.5) T38(16.5,5.5) T39(17.5,5.5) T40(18.5,5.5) T41(19.5,5.5) T42(20.5,5.5) U1(-20.5,4.5) U2(-19.5,4.5) U3(-18.5,4.5) U4(-17.5,4.5) U5(-16.5,4.5) U6(-15.5,4.5) U7(-14.5,4.5) U8(-13.5,4.5) U9(-12.5,4.5) U10(-11.5,4.5) U11(-10.5,4.5) U12(-9.5,4.5) U13(-8.5,4.5) U14(-7.5,4.5) U15(-6.5,4.5) U16(-5.5,4.5) U17(-4.5,4.5) U18(-3.5,4.5) U19(-2.5,4.5) U20(-1.5,4.5) U21(-0.5,4.5) U22(0.5,4.5) U23(1.5,4.5) U24(2.5,4.5) U25(3.5,4.5) U26(4.5,4.5) U27(5.5,4.5) U28(6.5,4.5) U29(7.5,4.5) U30(8.5,4.5) U31(9.5,4.5) U32(10.5,4.5) U33(11.5,4.5) U34(12.5,4.5) U35(13.5,4.5) U36(14.5,4.5) U37(15.5,4.5) U38(16.5,4.5) U39(17.5,4.5) U40(18.5,4.5) U41(19.5,4.5) U42(20.5,4.5) V1(-20.5,3.5) V2(-19.5,3.5) V3(-18.5,3.5) V4(-17.5,3.5) V5(-16.5,3.5) V6(-15.5,3.5) V7(-14.5,3.5) V8(-13.5,3.5) V9(-12.5,3.5) V10(-11.5,3.5) V11(-10.5,3.5) V12(-9.5,3.5) V13(-8.5,3.5) V14(-7.5,3.5) V15(-6.5,3.5) V16(-5.5,3.5) V17(-4.5,3.5) V18(-3.5,3.5) V19(-2.5,3.5) V20(-1.5,3.5) V21(-0.5,3.5) V22(0.5,3.5) V23(1.5,3.5) V24(2.5,3.5) V25(3.5,3.5) V26(4.5,3.5) V27(5.5,3.5) V28(6.5,3.5) V29(7.5,3.5) V30(8.5,3.5) V31(9.5,3.5) V32(10.5,3.5) V33(11.5,3.5) V34(12.5,3.5) V35(13.5,3.5) V36(14.5,3.5) V37(15.5,3.5) V38(16.5,3.5) V39(17.5,3.5) V40(18.5,3.5) V41(19.5,3.5) V42(20.5,3.5) W1(-20.5,2.5) W2(-19.5,2.5) W3(-18.5,2.5) W4(-17.5,2.5) W5(-16.5,2.5) W6(-15.5,2.5) W7(-14.5,2.5) W8(-13.5,2.5) W9(-12.5,2.5) W10(-11.5,2.5) W11(-10.5,2.5) W12(-9.5,2.5) W13(-8.5,2.5) W14(-7.5,2.5) W15(-6.5,2.5) W16(-5.5,2.5) W17(-4.5,2.5) W18(-3.5,2.5) W19(-2.5,2.5) W20(-1.5,2.5) W21(-0.5,2.5) W22(0.5,2.5) W23(1.5,2.5) W24(2.5,2.5) W25(3.5,2.5) W26(4.5,2.5) W27(5.5,2.5) W28(6.5,2.5) W29(7.5,2.5) W30(8.5,2.5) W31(9.5,2.5) W32(10.5,2.5) W33(11.5,2.5) W34(12.5,2.5) W35(13.5,2.5) W36(14.5,2.5) W37(15.5,2.5) W38(16.5,2.5) W39(17.5,2.5) W40(18.5,2.5) W41(19.5,2.5) W42(20.5,2.5) Y1(-20.5,1.5) Y2(-19.5,1.5) Y3(-18.5,1.5) Y4(-17.5,1.5) Y5(-16.5,1.5) Y6(-15.5,1.5) Y7(-14.5,1.5) Y8(-13.5,1.5) Y9(-12.5,1.5) Y10(-11.5,1.5) Y11(-10.5,1.5) Y12(-9.5,1.5) Y13(-8.5,1.5) Y14(-7.5,1.5) Y15(-6.5,1.5) Y16(-5.5,1.5) Y17(-4.5,1.5) Y18(-3.5,1.5) Y19(-2.5,1.5) Y20(-1.5,1.5) Y21(-0.5,1.5) Y22(0.5,1.5) Y23(1.5,1.5) Y24(2.5,1.5) Y25(3.5,1.5) Y26(4.5,1.5) Y27(5.5,1.5) Y28(6.5,1.5) Y29(7.5,1.5) Y30(8.5,1.5) Y31(9.5,1.5) Y32(10.5,1.5) Y33(11.5,1.5) Y34(12.5,1.5) Y35(13.5,1.5) Y36(14.5,1.5) Y37(15.5,1.5) Y38(16.5,1.5) Y39(17.5,1.5) Y40(18.5,1.5) Y41(19.5,1.5) Y42(20.5,1.5)
Top Overlay:
  circle w0.25: c-21.905,20.5 r0.125
  lines w0.2: -21.25,-20.669 -20.669,-21.25 20.669,-21.25 21.25,-20.669 21.25,20.669 20.669,21.25 -21.25,21.25 -21.25,-20.669

## PBGA42.5X42.5-FO1681 [mm] "BGA; 1681 Balls; Body 42.5 x 42.5 mm; Pitch 1 mm"
height 3.5
pads (1681):
  round 0.5 smd: A1(-20,20) A2(-19,20) A3(-18,20) A4(-17,20) A5(-16,20) A6(-15,20) A7(-14,20) A8(-13,20) A9(-12,20) A10(-11,20) A11(-10,20) A12(-9,20) A13(-8,20) A14(-7,20) A15(-6,20) A16(-5,20) A17(-4,20) A18(-3,20) A19(-2,20) A20(-1,20) A21(0,20) A22(1,20) A23(2,20) A24(3,20) A25(4,20) A26(5,20) A27(6,20) A28(7,20) A29(8,20) A30(9,20) A31(10,20) A32(11,20) A33(12,20) A34(13,20) A35(14,20) A36(15,20) A37(16,20) A38(17,20) A39(18,20) A40(19,20) A41(20,20) AA1(-20,0) AA2(-19,0) AA3(-18,0) AA4(-17,0) AA5(-16,0) AA6(-15,0) AA7(-14,0) AA8(-13,0) AA9(-12,0) AA10(-11,0) AA11(-10,0) AA12(-9,0) AA13(-8,0) AA14(-7,0) AA15(-6,0) AA16(-5,0) AA17(-4,0) AA18(-3,0) AA19(-2,0) AA20(-1,0) AA21(0,0) AA22(1,0) AA23(2,0) AA24(3,0) AA25(4,0) AA26(5,0) AA27(6,0) AA28(7,0) AA29(8,0) AA30(9,0) AA31(10,0) AA32(11,0) AA33(12,0) AA34(13,0) AA35(14,0) AA36(15,0) AA37(16,0) AA38(17,0) AA39(18,0) AA40(19,0) AA41(20,0) AB1(-20,-1) AB2(-19,-1) AB3(-18,-1) AB4(-17,-1) AB5(-16,-1) AB6(-15,-1) AB7(-14,-1) AB8(-13,-1) AB9(-12,-1) AB10(-11,-1) AB11(-10,-1) AB12(-9,-1) AB13(-8,-1) AB14(-7,-1) AB15(-6,-1) AB16(-5,-1) AB17(-4,-1) AB18(-3,-1) AB19(-2,-1) AB20(-1,-1) AB21(0,-1) AB22(1,-1) AB23(2,-1) AB24(3,-1) AB25(4,-1) AB26(5,-1) AB27(6,-1) AB28(7,-1) AB29(8,-1) AB30(9,-1) AB31(10,-1) AB32(11,-1) AB33(12,-1) AB34(13,-1) AB35(14,-1) AB36(15,-1) AB37(16,-1) AB38(17,-1) AB39(18,-1) AB40(19,-1) AB41(20,-1) AC1(-20,-2) AC2(-19,-2) AC3(-18,-2) AC4(-17,-2) AC5(-16,-2) AC6(-15,-2) AC7(-14,-2) AC8(-13,-2) AC9(-12,-2) AC10(-11,-2) AC11(-10,-2) AC12(-9,-2) AC13(-8,-2) AC14(-7,-2) AC15(-6,-2) AC16(-5,-2) AC17(-4,-2) AC18(-3,-2) AC19(-2,-2) AC20(-1,-2) AC21(0,-2) AC22(1,-2) AC23(2,-2) AC24(3,-2) AC25(4,-2) AC26(5,-2) AC27(6,-2) AC28(7,-2) AC29(8,-2) AC30(9,-2) AC31(10,-2) AC32(11,-2) AC33(12,-2) AC34(13,-2) AC35(14,-2) AC36(15,-2) AC37(16,-2) AC38(17,-2) AC39(18,-2) AC40(19,-2) AC41(20,-2) AD1(-20,-3) AD2(-19,-3) AD3(-18,-3) AD4(-17,-3) AD5(-16,-3) AD6(-15,-3) AD7(-14,-3) AD8(-13,-3) AD9(-12,-3) AD10(-11,-3) AD11(-10,-3) AD12(-9,-3) AD13(-8,-3) AD14(-7,-3) AD15(-6,-3) AD16(-5,-3) AD17(-4,-3) AD18(-3,-3) AD19(-2,-3) AD20(-1,-3) AD21(0,-3) AD22(1,-3) AD23(2,-3) AD24(3,-3) AD25(4,-3) AD26(5,-3) AD27(6,-3) AD28(7,-3) AD29(8,-3) AD30(9,-3) AD31(10,-3) AD32(11,-3) AD33(12,-3) AD34(13,-3) AD35(14,-3) AD36(15,-3) AD37(16,-3) AD38(17,-3) AD39(18,-3) AD40(19,-3) AD41(20,-3) AE1(-20,-4) AE2(-19,-4) AE3(-18,-4) AE4(-17,-4) AE5(-16,-4) AE6(-15,-4) AE7(-14,-4) AE8(-13,-4) AE9(-12,-4) AE10(-11,-4) AE11(-10,-4) AE12(-9,-4) AE13(-8,-4) AE14(-7,-4) AE15(-6,-4) AE16(-5,-4) AE17(-4,-4) AE18(-3,-4) AE19(-2,-4) AE20(-1,-4) AE21(0,-4) AE22(1,-4) AE23(2,-4) AE24(3,-4) AE25(4,-4) AE26(5,-4) AE27(6,-4) AE28(7,-4) AE29(8,-4) AE30(9,-4) AE31(10,-4) AE32(11,-4) AE33(12,-4) AE34(13,-4) AE35(14,-4) AE36(15,-4) AE37(16,-4) AE38(17,-4) AE39(18,-4) AE40(19,-4) AE41(20,-4) AF1(-20,-5) AF2(-19,-5) AF3(-18,-5) AF4(-17,-5) AF5(-16,-5) AF6(-15,-5) AF7(-14,-5) AF8(-13,-5) AF9(-12,-5) AF10(-11,-5) AF11(-10,-5) AF12(-9,-5) AF13(-8,-5) AF14(-7,-5) AF15(-6,-5) AF16(-5,-5) AF17(-4,-5) AF18(-3,-5) AF19(-2,-5) AF20(-1,-5) AF21(0,-5) AF22(1,-5) AF23(2,-5) AF24(3,-5) AF25(4,-5) AF26(5,-5) AF27(6,-5) AF28(7,-5) AF29(8,-5) AF30(9,-5) AF31(10,-5) AF32(11,-5) AF33(12,-5) AF34(13,-5) AF35(14,-5) AF36(15,-5) AF37(16,-5) AF38(17,-5) AF39(18,-5) AF40(19,-5) AF41(20,-5) AG1(-20,-6) AG2(-19,-6) AG3(-18,-6) AG4(-17,-6) AG5(-16,-6) AG6(-15,-6) AG7(-14,-6) AG8(-13,-6) AG9(-12,-6) AG10(-11,-6) AG11(-10,-6) AG12(-9,-6) AG13(-8,-6) AG14(-7,-6) AG15(-6,-6) AG16(-5,-6) AG17(-4,-6) AG18(-3,-6) AG19(-2,-6) AG20(-1,-6) AG21(0,-6) AG22(1,-6) AG23(2,-6) AG24(3,-6) AG25(4,-6) AG26(5,-6) AG27(6,-6) AG28(7,-6) AG29(8,-6) AG30(9,-6) AG31(10,-6) AG32(11,-6) AG33(12,-6) AG34(13,-6) AG35(14,-6) AG36(15,-6) AG37(16,-6) AG38(17,-6) AG39(18,-6) AG40(19,-6) AG41(20,-6) AH1(-20,-7) AH2(-19,-7) AH3(-18,-7) AH4(-17,-7) AH5(-16,-7) AH6(-15,-7) AH7(-14,-7) AH8(-13,-7) AH9(-12,-7) AH10(-11,-7) AH11(-10,-7) AH12(-9,-7) AH13(-8,-7) AH14(-7,-7) AH15(-6,-7) AH16(-5,-7) AH17(-4,-7) AH18(-3,-7) AH19(-2,-7) AH20(-1,-7) AH21(0,-7) AH22(1,-7) AH23(2,-7) AH24(3,-7) AH25(4,-7) AH26(5,-7) AH27(6,-7) AH28(7,-7) AH29(8,-7) AH30(9,-7) AH31(10,-7) AH32(11,-7) AH33(12,-7) AH34(13,-7) AH35(14,-7) AH36(15,-7) AH37(16,-7) AH38(17,-7) AH39(18,-7) AH40(19,-7) AH41(20,-7) AJ1(-20,-8) AJ2(-19,-8) AJ3(-18,-8) AJ4(-17,-8) AJ5(-16,-8) AJ6(-15,-8) AJ7(-14,-8) AJ8(-13,-8) AJ9(-12,-8) AJ10(-11,-8) AJ11(-10,-8) AJ12(-9,-8) AJ13(-8,-8) AJ14(-7,-8) AJ15(-6,-8) AJ16(-5,-8) AJ17(-4,-8) AJ18(-3,-8) AJ19(-2,-8) AJ20(-1,-8) AJ21(0,-8) AJ22(1,-8) AJ23(2,-8) AJ24(3,-8) AJ25(4,-8) AJ26(5,-8) AJ27(6,-8) AJ28(7,-8) AJ29(8,-8) AJ30(9,-8) AJ31(10,-8) AJ32(11,-8) AJ33(12,-8) AJ34(13,-8) AJ35(14,-8) AJ36(15,-8) AJ37(16,-8) AJ38(17,-8) AJ39(18,-8) AJ40(19,-8) AJ41(20,-8) AK1(-20,-9) AK2(-19,-9) AK3(-18,-9) AK4(-17,-9) AK5(-16,-9) AK6(-15,-9) AK7(-14,-9) AK8(-13,-9) AK9(-12,-9) AK10(-11,-9) AK11(-10,-9) AK12(-9,-9) AK13(-8,-9) AK14(-7,-9) AK15(-6,-9) AK16(-5,-9) AK17(-4,-9) AK18(-3,-9) AK19(-2,-9) AK20(-1,-9) AK21(0,-9) AK22(1,-9) AK23(2,-9) AK24(3,-9) AK25(4,-9) AK26(5,-9) AK27(6,-9) AK28(7,-9) AK29(8,-9) AK30(9,-9) AK31(10,-9) AK32(11,-9) AK33(12,-9) AK34(13,-9) AK35(14,-9) AK36(15,-9) AK37(16,-9) AK38(17,-9) AK39(18,-9) AK40(19,-9) AK41(20,-9) AL1(-20,-10) AL2(-19,-10) AL3(-18,-10) AL4(-17,-10) AL5(-16,-10) AL6(-15,-10) AL7(-14,-10) AL8(-13,-10) AL9(-12,-10) AL10(-11,-10) AL11(-10,-10) AL12(-9,-10) AL13(-8,-10) AL14(-7,-10) AL15(-6,-10) AL16(-5,-10) AL17(-4,-10) AL18(-3,-10) AL19(-2,-10) AL20(-1,-10) AL21(0,-10) AL22(1,-10) AL23(2,-10) AL24(3,-10) AL25(4,-10) AL26(5,-10) AL27(6,-10) AL28(7,-10) AL29(8,-10) AL30(9,-10) AL31(10,-10) AL32(11,-10) AL33(12,-10) AL34(13,-10) AL35(14,-10) AL36(15,-10) AL37(16,-10) AL38(17,-10) AL39(18,-10) AL40(19,-10) AL41(20,-10) AM1(-20,-11) AM2(-19,-11) AM3(-18,-11) AM4(-17,-11) AM5(-16,-11) AM6(-15,-11) AM7(-14,-11) AM8(-13,-11) AM9(-12,-11) AM10(-11,-11) AM11(-10,-11) AM12(-9,-11) AM13(-8,-11) AM14(-7,-11) AM15(-6,-11) AM16(-5,-11) AM17(-4,-11) AM18(-3,-11) AM19(-2,-11) AM20(-1,-11) AM21(0,-11) AM22(1,-11) AM23(2,-11) AM24(3,-11) AM25(4,-11) AM26(5,-11) AM27(6,-11) AM28(7,-11) AM29(8,-11) AM30(9,-11) AM31(10,-11) AM32(11,-11) AM33(12,-11) AM34(13,-11) AM35(14,-11) AM36(15,-11) AM37(16,-11) AM38(17,-11) AM39(18,-11) AM40(19,-11) AM41(20,-11) AN1(-20,-12) AN2(-19,-12) AN3(-18,-12) AN4(-17,-12) AN5(-16,-12) AN6(-15,-12) AN7(-14,-12) AN8(-13,-12) AN9(-12,-12) AN10(-11,-12) AN11(-10,-12) AN12(-9,-12) AN13(-8,-12) AN14(-7,-12) AN15(-6,-12) AN16(-5,-12) AN17(-4,-12) AN18(-3,-12) AN19(-2,-12) AN20(-1,-12) AN21(0,-12) AN22(1,-12) AN23(2,-12) AN24(3,-12) AN25(4,-12) AN26(5,-12) AN27(6,-12) AN28(7,-12) AN29(8,-12) AN30(9,-12) AN31(10,-12) AN32(11,-12) AN33(12,-12) AN34(13,-12) AN35(14,-12) AN36(15,-12) AN37(16,-12) AN38(17,-12) AN39(18,-12) AN40(19,-12) AN41(20,-12) AP1(-20,-13) AP2(-19,-13) AP3(-18,-13) AP4(-17,-13) AP5(-16,-13) AP6(-15,-13) AP7(-14,-13) AP8(-13,-13) AP9(-12,-13) AP10(-11,-13) AP11(-10,-13) AP12(-9,-13) AP13(-8,-13) AP14(-7,-13) AP15(-6,-13) AP16(-5,-13) AP17(-4,-13) AP18(-3,-13) AP19(-2,-13) AP20(-1,-13) AP21(0,-13) AP22(1,-13) AP23(2,-13) AP24(3,-13) AP25(4,-13) AP26(5,-13) AP27(6,-13) AP28(7,-13) AP29(8,-13) AP30(9,-13) AP31(10,-13) AP32(11,-13) AP33(12,-13) AP34(13,-13) AP35(14,-13) AP36(15,-13) AP37(16,-13) AP38(17,-13) AP39(18,-13) AP40(19,-13) AP41(20,-13) AR1(-20,-14) AR2(-19,-14) AR3(-18,-14) AR4(-17,-14) AR5(-16,-14) AR6(-15,-14) AR7(-14,-14) AR8(-13,-14) AR9(-12,-14) AR10(-11,-14) AR11(-10,-14) AR12(-9,-14) AR13(-8,-14) AR14(-7,-14) AR15(-6,-14) AR16(-5,-14) AR17(-4,-14) AR18(-3,-14) AR19(-2,-14) AR20(-1,-14) AR21(0,-14) AR22(1,-14) AR23(2,-14) AR24(3,-14) AR25(4,-14) AR26(5,-14) AR27(6,-14) AR28(7,-14) AR29(8,-14) AR30(9,-14) AR31(10,-14) AR32(11,-14) AR33(12,-14) AR34(13,-14) AR35(14,-14) AR36(15,-14) AR37(16,-14) AR38(17,-14) AR39(18,-14) AR40(19,-14) AR41(20,-14) AT1(-20,-15) AT2(-19,-15) AT3(-18,-15) AT4(-17,-15) AT5(-16,-15) AT6(-15,-15) AT7(-14,-15) AT8(-13,-15) AT9(-12,-15) AT10(-11,-15) AT11(-10,-15) AT12(-9,-15) AT13(-8,-15) AT14(-7,-15) AT15(-6,-15) AT16(-5,-15) AT17(-4,-15) AT18(-3,-15) AT19(-2,-15) AT20(-1,-15) AT21(0,-15) AT22(1,-15) AT23(2,-15) AT24(3,-15) AT25(4,-15) AT26(5,-15) AT27(6,-15) AT28(7,-15) AT29(8,-15) AT30(9,-15) AT31(10,-15) AT32(11,-15) AT33(12,-15) AT34(13,-15) AT35(14,-15) AT36(15,-15) AT37(16,-15) AT38(17,-15) AT39(18,-15) AT40(19,-15) AT41(20,-15) AU1(-20,-16) AU2(-19,-16) AU3(-18,-16) AU4(-17,-16) AU5(-16,-16) AU6(-15,-16) AU7(-14,-16) AU8(-13,-16) AU9(-12,-16) AU10(-11,-16) AU11(-10,-16) AU12(-9,-16) AU13(-8,-16) AU14(-7,-16) AU15(-6,-16) AU16(-5,-16) AU17(-4,-16) AU18(-3,-16) AU19(-2,-16) AU20(-1,-16) AU21(0,-16) AU22(1,-16) AU23(2,-16) AU24(3,-16) AU25(4,-16) AU26(5,-16) AU27(6,-16) AU28(7,-16) AU29(8,-16) AU30(9,-16) AU31(10,-16) AU32(11,-16) AU33(12,-16) AU34(13,-16) AU35(14,-16) AU36(15,-16) AU37(16,-16) AU38(17,-16) AU39(18,-16) AU40(19,-16) AU41(20,-16) AV1(-20,-17) AV2(-19,-17) AV3(-18,-17) AV4(-17,-17) AV5(-16,-17) AV6(-15,-17) AV7(-14,-17) AV8(-13,-17) AV9(-12,-17) AV10(-11,-17) AV11(-10,-17) AV12(-9,-17) AV13(-8,-17) AV14(-7,-17) AV15(-6,-17) AV16(-5,-17) AV17(-4,-17) AV18(-3,-17) AV19(-2,-17) AV20(-1,-17) AV21(0,-17) AV22(1,-17) AV23(2,-17) AV24(3,-17) AV25(4,-17) AV26(5,-17) AV27(6,-17) AV28(7,-17) AV29(8,-17) AV30(9,-17) AV31(10,-17) AV32(11,-17) AV33(12,-17) AV34(13,-17) AV35(14,-17) AV36(15,-17) AV37(16,-17) AV38(17,-17) AV39(18,-17) AV40(19,-17) AV41(20,-17) AW1(-20,-18) AW2(-19,-18) AW3(-18,-18) AW4(-17,-18) AW5(-16,-18) AW6(-15,-18) AW7(-14,-18) AW8(-13,-18) AW9(-12,-18) AW10(-11,-18) AW11(-10,-18) AW12(-9,-18) AW13(-8,-18) AW14(-7,-18) AW15(-6,-18) AW16(-5,-18) AW17(-4,-18) AW18(-3,-18) AW19(-2,-18) AW20(-1,-18) AW21(0,-18) AW22(1,-18) AW23(2,-18) AW24(3,-18) AW25(4,-18) AW26(5,-18) AW27(6,-18) AW28(7,-18) AW29(8,-18) AW30(9,-18) AW31(10,-18) AW32(11,-18) AW33(12,-18) AW34(13,-18) AW35(14,-18) AW36(15,-18) AW37(16,-18) AW38(17,-18) AW39(18,-18) AW40(19,-18) AW41(20,-18) AY1(-20,-19) AY2(-19,-19) AY3(-18,-19) AY4(-17,-19) AY5(-16,-19) AY6(-15,-19) AY7(-14,-19) AY8(-13,-19) AY9(-12,-19) AY10(-11,-19) AY11(-10,-19) AY12(-9,-19) AY13(-8,-19) AY14(-7,-19) AY15(-6,-19) AY16(-5,-19) AY17(-4,-19) AY18(-3,-19) AY19(-2,-19) AY20(-1,-19) AY21(0,-19) AY22(1,-19) AY23(2,-19) AY24(3,-19) AY25(4,-19) AY26(5,-19) AY27(6,-19) AY28(7,-19) AY29(8,-19) AY30(9,-19) AY31(10,-19) AY32(11,-19) AY33(12,-19) AY34(13,-19) AY35(14,-19) AY36(15,-19) AY37(16,-19) AY38(17,-19) AY39(18,-19) AY40(19,-19) AY41(20,-19) B1(-20,19) B2(-19,19) B3(-18,19) B4(-17,19) B5(-16,19) B6(-15,19) B7(-14,19) B8(-13,19) B9(-12,19) B10(-11,19) B11(-10,19) B12(-9,19) B13(-8,19) B14(-7,19) B15(-6,19) B16(-5,19) B17(-4,19) B18(-3,19) B19(-2,19) B20(-1,19) B21(0,19) B22(1,19) B23(2,19) B24(3,19) B25(4,19) B26(5,19) B27(6,19) B28(7,19) B29(8,19) B30(9,19) B31(10,19) B32(11,19) B33(12,19) B34(13,19) B35(14,19) B36(15,19) B37(16,19) B38(17,19) B39(18,19) B40(19,19) B41(20,19) BA1(-20,-20) BA2(-19,-20) BA3(-18,-20) BA4(-17,-20) BA5(-16,-20) BA6(-15,-20) BA7(-14,-20) BA8(-13,-20) BA9(-12,-20) BA10(-11,-20) BA11(-10,-20) BA12(-9,-20) BA13(-8,-20) BA14(-7,-20) BA15(-6,-20) BA16(-5,-20) BA17(-4,-20) BA18(-3,-20) BA19(-2,-20) BA20(-1,-20) BA21(0,-20) BA22(1,-20) BA23(2,-20) BA24(3,-20) BA25(4,-20) BA26(5,-20) BA27(6,-20) BA28(7,-20) BA29(8,-20) BA30(9,-20) BA31(10,-20) BA32(11,-20) BA33(12,-20) BA34(13,-20) BA35(14,-20) BA36(15,-20) BA37(16,-20) BA38(17,-20) BA39(18,-20) BA40(19,-20) BA41(20,-20) C1(-20,18) C2(-19,18) C3(-18,18) C4(-17,18) C5(-16,18) C6(-15,18) C7(-14,18) C8(-13,18) C9(-12,18) C10(-11,18) C11(-10,18) C12(-9,18) C13(-8,18) C14(-7,18) C15(-6,18) C16(-5,18) C17(-4,18) C18(-3,18) C19(-2,18) C20(-1,18) C21(0,18) C22(1,18) C23(2,18) C24(3,18) C25(4,18) C26(5,18) C27(6,18) C28(7,18) C29(8,18) C30(9,18) C31(10,18) C32(11,18) C33(12,18) C34(13,18) C35(14,18) C36(15,18) C37(16,18) C38(17,18) C39(18,18) C40(19,18) C41(20,18) D1(-20,17) D2(-19,17) D3(-18,17) D4(-17,17) D5(-16,17) D6(-15,17) D7(-14,17) D8(-13,17) D9(-12,17) D10(-11,17) D11(-10,17) D12(-9,17) D13(-8,17) D14(-7,17) D15(-6,17) D16(-5,17) D17(-4,17) D18(-3,17) D19(-2,17) D20(-1,17) D21(0,17) D22(1,17) D23(2,17) D24(3,17) D25(4,17) D26(5,17) D27(6,17) D28(7,17) D29(8,17) D30(9,17) D31(10,17) D32(11,17) D33(12,17) D34(13,17) D35(14,17) D36(15,17) D37(16,17) D38(17,17) D39(18,17) D40(19,17) D41(20,17) E1(-20,16) E2(-19,16) E3(-18,16) E4(-17,16) E5(-16,16) E6(-15,16) E7(-14,16) E8(-13,16) E9(-12,16) E10(-11,16) E11(-10,16) E12(-9,16) E13(-8,16) E14(-7,16) E15(-6,16) E16(-5,16) E17(-4,16) E18(-3,16) E19(-2,16) E20(-1,16) E21(0,16) E22(1,16) E23(2,16) E24(3,16) E25(4,16) E26(5,16) E27(6,16) E28(7,16) E29(8,16) E30(9,16) E31(10,16) E32(11,16) E33(12,16) E34(13,16) E35(14,16) E36(15,16) E37(16,16) E38(17,16) E39(18,16) E40(19,16) E41(20,16) F1(-20,15) F2(-19,15) F3(-18,15) F4(-17,15) F5(-16,15) F6(-15,15) F7(-14,15) F8(-13,15) F9(-12,15) F10(-11,15) F11(-10,15) F12(-9,15) F13(-8,15) F14(-7,15) F15(-6,15) F16(-5,15) F17(-4,15) F18(-3,15) F19(-2,15) F20(-1,15) F21(0,15) F22(1,15) F23(2,15) F24(3,15) F25(4,15) F26(5,15) F27(6,15) F28(7,15) F29(8,15) F30(9,15) F31(10,15) F32(11,15) F33(12,15) F34(13,15) F35(14,15) F36(15,15) F37(16,15) F38(17,15) F39(18,15) F40(19,15) F41(20,15) G1(-20,14) G2(-19,14) G3(-18,14) G4(-17,14) G5(-16,14) G6(-15,14) G7(-14,14) G8(-13,14) G9(-12,14) G10(-11,14) G11(-10,14) G12(-9,14) G13(-8,14) G14(-7,14) G15(-6,14) G16(-5,14) G17(-4,14) G18(-3,14) G19(-2,14) G20(-1,14) G21(0,14) G22(1,14) G23(2,14) G24(3,14) G25(4,14) G26(5,14) G27(6,14) G28(7,14) G29(8,14) G30(9,14) G31(10,14) G32(11,14) G33(12,14) G34(13,14) G35(14,14) G36(15,14) G37(16,14) G38(17,14) G39(18,14) G40(19,14) G41(20,14) H1(-20,13) H2(-19,13) H3(-18,13) H4(-17,13) H5(-16,13) H6(-15,13) H7(-14,13) H8(-13,13) H9(-12,13) H10(-11,13) H11(-10,13) H12(-9,13) H13(-8,13) H14(-7,13) H15(-6,13) H16(-5,13) H17(-4,13) H18(-3,13) H19(-2,13) H20(-1,13) H21(0,13) H22(1,13) H23(2,13) H24(3,13) H25(4,13) H26(5,13) H27(6,13) H28(7,13) H29(8,13) H30(9,13) H31(10,13) H32(11,13) H33(12,13) H34(13,13) H35(14,13) H36(15,13) H37(16,13) H38(17,13) H39(18,13) H40(19,13) H41(20,13) J1(-20,12) J2(-19,12) J3(-18,12) J4(-17,12) J5(-16,12) J6(-15,12) J7(-14,12) J8(-13,12) J9(-12,12) J10(-11,12) J11(-10,12) J12(-9,12) J13(-8,12) J14(-7,12) J15(-6,12) J16(-5,12) J17(-4,12) J18(-3,12) J19(-2,12) J20(-1,12) J21(0,12) J22(1,12) J23(2,12) J24(3,12) J25(4,12) J26(5,12) J27(6,12) J28(7,12) J29(8,12) J30(9,12) J31(10,12) J32(11,12) J33(12,12) J34(13,12) J35(14,12) J36(15,12) J37(16,12) J38(17,12) J39(18,12) J40(19,12) J41(20,12) K1(-20,11) K2(-19,11) K3(-18,11) K4(-17,11) K5(-16,11) K6(-15,11) K7(-14,11) K8(-13,11) K9(-12,11) K10(-11,11) K11(-10,11) K12(-9,11) K13(-8,11) K14(-7,11) K15(-6,11) K16(-5,11) K17(-4,11) K18(-3,11) K19(-2,11) K20(-1,11) K21(0,11) K22(1,11) K23(2,11) K24(3,11) K25(4,11) K26(5,11) K27(6,11) K28(7,11) K29(8,11) K30(9,11) K31(10,11) K32(11,11) K33(12,11) K34(13,11) K35(14,11) K36(15,11) K37(16,11) K38(17,11) K39(18,11) K40(19,11) K41(20,11) L1(-20,10) L2(-19,10) L3(-18,10) L4(-17,10) L5(-16,10) L6(-15,10) L7(-14,10) L8(-13,10) L9(-12,10) L10(-11,10) L11(-10,10) L12(-9,10) L13(-8,10) L14(-7,10) L15(-6,10) L16(-5,10) L17(-4,10) L18(-3,10) L19(-2,10) L20(-1,10) L21(0,10) L22(1,10) L23(2,10) L24(3,10) L25(4,10) L26(5,10) L27(6,10) L28(7,10) L29(8,10) L30(9,10) L31(10,10) L32(11,10) L33(12,10) L34(13,10) L35(14,10) L36(15,10) L37(16,10) L38(17,10) L39(18,10) L40(19,10) L41(20,10) M1(-20,9) M2(-19,9) M3(-18,9) M4(-17,9) M5(-16,9) M6(-15,9) M7(-14,9) M8(-13,9) M9(-12,9) M10(-11,9) M11(-10,9) M12(-9,9) M13(-8,9) M14(-7,9) M15(-6,9) M16(-5,9) M17(-4,9) M18(-3,9) M19(-2,9) M20(-1,9) M21(0,9) M22(1,9) M23(2,9) M24(3,9) M25(4,9) M26(5,9) M27(6,9) M28(7,9) M29(8,9) M30(9,9) M31(10,9) M32(11,9) M33(12,9) M34(13,9) M35(14,9) M36(15,9) M37(16,9) M38(17,9) M39(18,9) M40(19,9) M41(20,9) N1(-20,8) N2(-19,8) N3(-18,8) N4(-17,8) N5(-16,8) N6(-15,8) N7(-14,8) N8(-13,8) N9(-12,8) N10(-11,8) N11(-10,8) N12(-9,8) N13(-8,8) N14(-7,8) N15(-6,8) N16(-5,8) N17(-4,8) N18(-3,8) N19(-2,8) N20(-1,8) N21(0,8) N22(1,8) N23(2,8) N24(3,8) N25(4,8) N26(5,8) N27(6,8) N28(7,8) N29(8,8) N30(9,8) N31(10,8) N32(11,8) N33(12,8) N34(13,8) N35(14,8) N36(15,8) N37(16,8) N38(17,8) N39(18,8) N40(19,8) N41(20,8) P1(-20,7) P2(-19,7) P3(-18,7) P4(-17,7) P5(-16,7) P6(-15,7) P7(-14,7) P8(-13,7) P9(-12,7) P10(-11,7) P11(-10,7) P12(-9,7) P13(-8,7) P14(-7,7) P15(-6,7) P16(-5,7) P17(-4,7) P18(-3,7) P19(-2,7) P20(-1,7) P21(0,7) P22(1,7) P23(2,7) P24(3,7) P25(4,7) P26(5,7) P27(6,7) P28(7,7) P29(8,7) P30(9,7) P31(10,7) P32(11,7) P33(12,7) P34(13,7) P35(14,7) P36(15,7) P37(16,7) P38(17,7) P39(18,7) P40(19,7) P41(20,7) R1(-20,6) R2(-19,6) R3(-18,6) R4(-17,6) R5(-16,6) R6(-15,6) R7(-14,6) R8(-13,6) R9(-12,6) R10(-11,6) R11(-10,6) R12(-9,6) R13(-8,6) R14(-7,6) R15(-6,6) R16(-5,6) R17(-4,6) R18(-3,6) R19(-2,6) R20(-1,6) R21(0,6) R22(1,6) R23(2,6) R24(3,6) R25(4,6) R26(5,6) R27(6,6) R28(7,6) R29(8,6) R30(9,6) R31(10,6) R32(11,6) R33(12,6) R34(13,6) R35(14,6) R36(15,6) R37(16,6) R38(17,6) R39(18,6) R40(19,6) R41(20,6) T1(-20,5) T2(-19,5) T3(-18,5) T4(-17,5) T5(-16,5) T6(-15,5) T7(-14,5) T8(-13,5) T9(-12,5) T10(-11,5) T11(-10,5) T12(-9,5) T13(-8,5) T14(-7,5) T15(-6,5) T16(-5,5) T17(-4,5) T18(-3,5) T19(-2,5) T20(-1,5) T21(0,5) T22(1,5) T23(2,5) T24(3,5) T25(4,5) T26(5,5) T27(6,5) T28(7,5) T29(8,5) T30(9,5) T31(10,5) T32(11,5) T33(12,5) T34(13,5) T35(14,5) T36(15,5) T37(16,5) T38(17,5) T39(18,5) T40(19,5) T41(20,5) U1(-20,4) U2(-19,4) U3(-18,4) U4(-17,4) U5(-16,4) U6(-15,4) U7(-14,4) U8(-13,4) U9(-12,4) U10(-11,4) U11(-10,4) U12(-9,4) U13(-8,4) U14(-7,4) U15(-6,4) U16(-5,4) U17(-4,4) U18(-3,4) U19(-2,4) U20(-1,4) U21(0,4) U22(1,4) U23(2,4) U24(3,4) U25(4,4) U26(5,4) U27(6,4) U28(7,4) U29(8,4) U30(9,4) U31(10,4) U32(11,4) U33(12,4) U34(13,4) U35(14,4) U36(15,4) U37(16,4) U38(17,4) U39(18,4) U40(19,4) U41(20,4) V1(-20,3) V2(-19,3) V3(-18,3) V4(-17,3) V5(-16,3) V6(-15,3) V7(-14,3) V8(-13,3) V9(-12,3) V10(-11,3) V11(-10,3) V12(-9,3) V13(-8,3) V14(-7,3) V15(-6,3) V16(-5,3) V17(-4,3) V18(-3,3) V19(-2,3) V20(-1,3) V21(0,3) V22(1,3) V23(2,3) V24(3,3) V25(4,3) V26(5,3) V27(6,3) V28(7,3) V29(8,3) V30(9,3) V31(10,3) V32(11,3) V33(12,3) V34(13,3) V35(14,3) V36(15,3) V37(16,3) V38(17,3) V39(18,3) V40(19,3) V41(20,3) W1(-20,2) W2(-19,2) W3(-18,2) W4(-17,2) W5(-16,2) W6(-15,2) W7(-14,2) W8(-13,2) W9(-12,2) W10(-11,2) W11(-10,2) W12(-9,2) W13(-8,2) W14(-7,2) W15(-6,2) W16(-5,2) W17(-4,2) W18(-3,2) W19(-2,2) W20(-1,2) W21(0,2) W22(1,2) W23(2,2) W24(3,2) W25(4,2) W26(5,2) W27(6,2) W28(7,2) W29(8,2) W30(9,2) W31(10,2) W32(11,2) W33(12,2) W34(13,2) W35(14,2) W36(15,2) W37(16,2) W38(17,2) W39(18,2) W40(19,2) W41(20,2) Y1(-20,1) Y2(-19,1) Y3(-18,1) Y4(-17,1) Y5(-16,1) Y6(-15,1) Y7(-14,1) Y8(-13,1) Y9(-12,1) Y10(-11,1) Y11(-10,1) Y12(-9,1) Y13(-8,1) Y14(-7,1) Y15(-6,1) Y16(-5,1) Y17(-4,1) Y18(-3,1) Y19(-2,1) Y20(-1,1) Y21(0,1) Y22(1,1) Y23(2,1) Y24(3,1) Y25(4,1) Y26(5,1) Y27(6,1) Y28(7,1) Y29(8,1) Y30(9,1) Y31(10,1) Y32(11,1) Y33(12,1) Y34(13,1) Y35(14,1) Y36(15,1) Y37(16,1) Y38(17,1) Y39(18,1) Y40(19,1) Y41(20,1)
Top Overlay:
  circle w0.25: c-21.905,20 r0.125
  lines w0.2: -21.25,-20.25 -21.25,21.25 20.25,21.25 21.25,20.25 21.25,-20.25 20.25,-21.25 -20.25,-21.25 -21.25,-20.25